# Altium footprint library LED 8x8.PcbLib: 1 footprints
Each footprint in its own frame and in the unit in brackets; x right, y up, seen from the top. Pads: shape width x height; smd on the part's side, far side on the other; paste and mask are expansions set on the pad; w line width, h text height; cw(c..) or ccw(c..) is an arc to the next point about the centre after c.
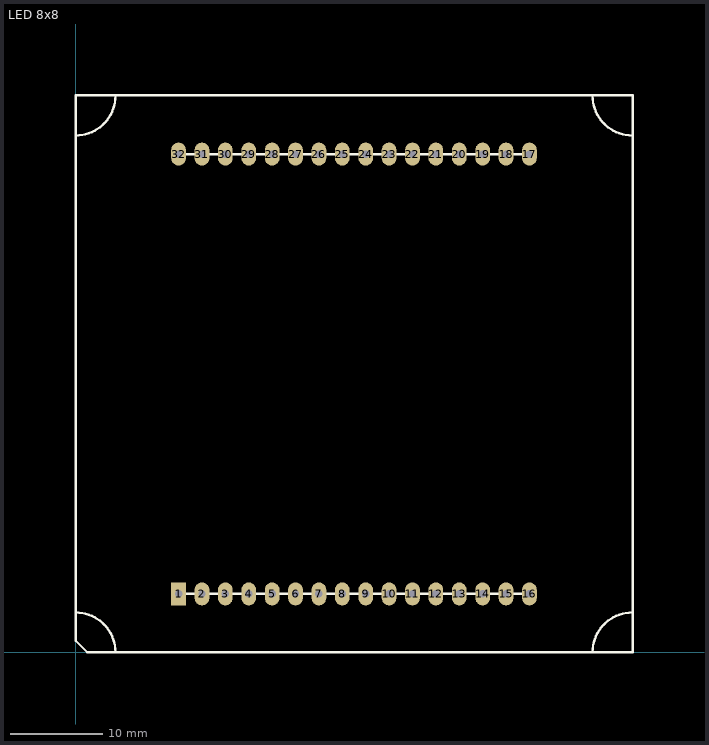
[diagram p0: the footprint, top view; thin cyan lines are the x and y axes]

## LED 8x8 [mm] "led-matrix rgb"
pads (32):
  rect 1.6x2.5 hole 0.8: 1(11.176,6.35)
  oval 1.6x2.5 hole 0.8: 2(13.716,6.35) 3(16.256,6.35) 4(18.796,6.35) 5(21.336,6.35) 6(23.876,6.35) 7(26.416,6.35) 8(28.956,6.35) 9(31.496,6.35) 10(34.036,6.35) 11(36.576,6.35) 12(39.116,6.35) 13(41.656,6.35) 14(44.196,6.35) 15(46.736,6.35) 16(49.276,6.35) 17(49.276,54.102) 18(46.736,54.102) 19(44.196,54.102) 20(41.656,54.102) 21(39.116,54.102) 22(36.576,54.102) 23(34.036,54.102) 24(31.496,54.102) 25(28.956,54.102) 26(26.416,54.102) 27(23.876,54.102) 28(21.336,54.102) 29(18.796,54.102) 30(16.256,54.102) 31(13.716,54.102) 32(11.176,54.102)
Top Overlay:
  lines w0.254: 0,4.325 cw(c0,0) 4.325,0 ; 0,56.127 ccw(c0,60.452) 4.325,60.452 ; 11.176,54.102 49.252,54.102 ; 11.2,6.374 49.276,6.35 ; 56.127,0 cw(c60.452,0) 60.452,4.325 ; 56.127,60.452 ccw(c60.452,60.452) 60.452,56.127 ; 0,1.27 1.27,0 60.5,0 60.5,60.5 0,60.5 0,1.27